# EAGLE library part SI-50014 (library SI-50014)
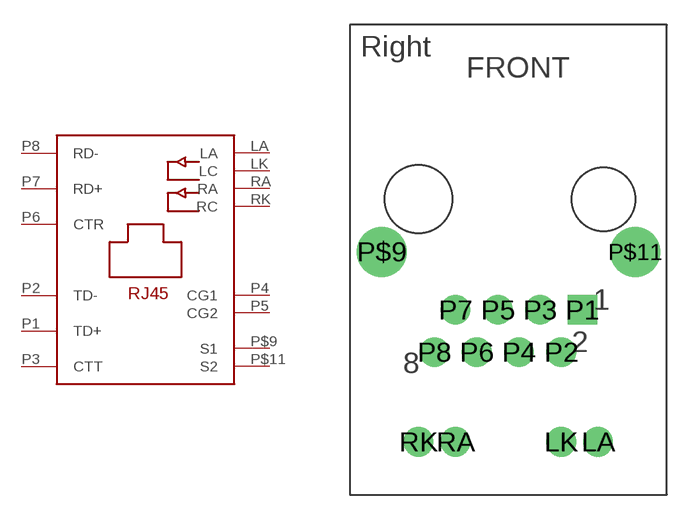
[diagram p0: symbol with the pads of SI-50014; footprint SI-50014]

Designator prefix -

## SI-50014  [SI-50014]
LA  LA  pas
LK  LC  pas
P1  TD+
P2  TD-
P3  CTT
P4  CG1  pas
P5  CG2  pas
P6  CTR
P7  RD+
P8  RD-
P$9  S1  pas
P$11  S2  pas
RA  RA  pas
RK  RC  pas

## Footprint SI-50014 (pad centres in mm)
drill 0.9 pad 1.778 round: LA 5.397,-14.287; LK 3.175,-14.287; P2 3.175,-8.89; P3 1.905,-6.35; P4 0.635,-8.89; P5 -0.635,-6.35; P6 -1.905,-8.89; P7 -3.175,-6.35; P8 -4.445,-8.89; RA -3.175,-14.287; RK -5.397,-14.287
drill 0.9 pad 1.778 square: P1 4.445,-6.35
drill 2 round: P$9 -7.62,-2.857; P$11 7.62,-2.857